# Altium footprint library SOT65P210X110-6N.PcbLib: 1 footprints
Each footprint in its own frame and in the unit in brackets; x right, y up, seen from the top. Pads: shape width x height; smd on the part's side, far side on the other; paste and mask are expansions set on the pad; w line width, h text height; cw(c..) or ccw(c..) is an arc to the next point about the centre after c.
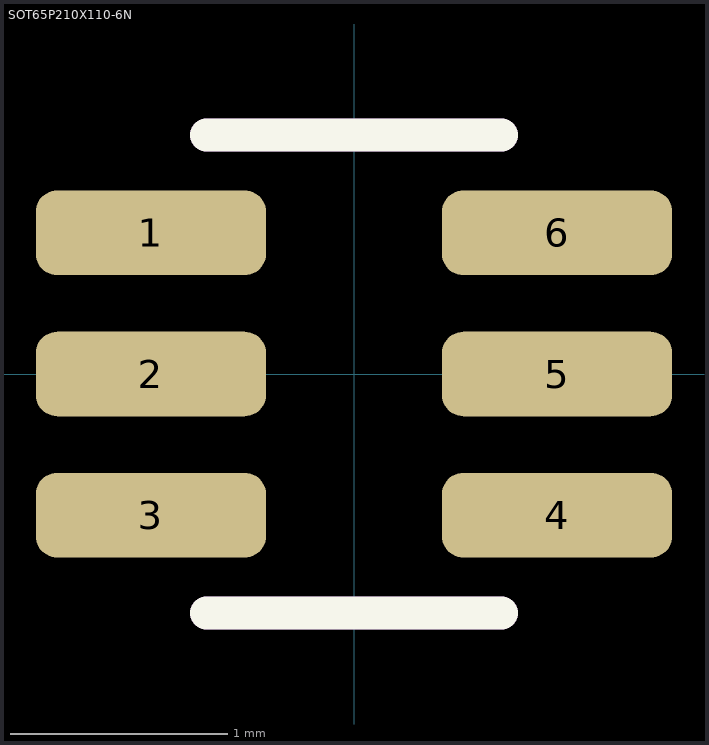
[diagram p0: the footprint, top view; thin cyan lines are the x and y axes]

## SOT65P210X110-6N [mm]
pads (6):
  rrect50% 1.06x0.39 smd: 1(-0.935,0.65) 2(-0.935,0) 3(-0.935,-0.65) 4(0.935,-0.65) 5(0.935,0) 6(0.935,0.65)
Top Overlay:
  lines w0.152: -0.68,-1.1 0.68,-1.1 ; -0.68,1.1 0.68,1.1
Assembly Top:
  lines w0.152: -0.68,-1.1 0.68,-1.1 ; -0.68,1.1 0.68,1.1
3D body "step_temp.STEP": height 1.1, standoff 0, extent -1.05,-1 1.05,1